# Altium integrated library FPGA NB2DSK01 Port-Plugin.IntLib: 28 symbols
Pins are listed as number, name and electrical type; pins without a type are passive.

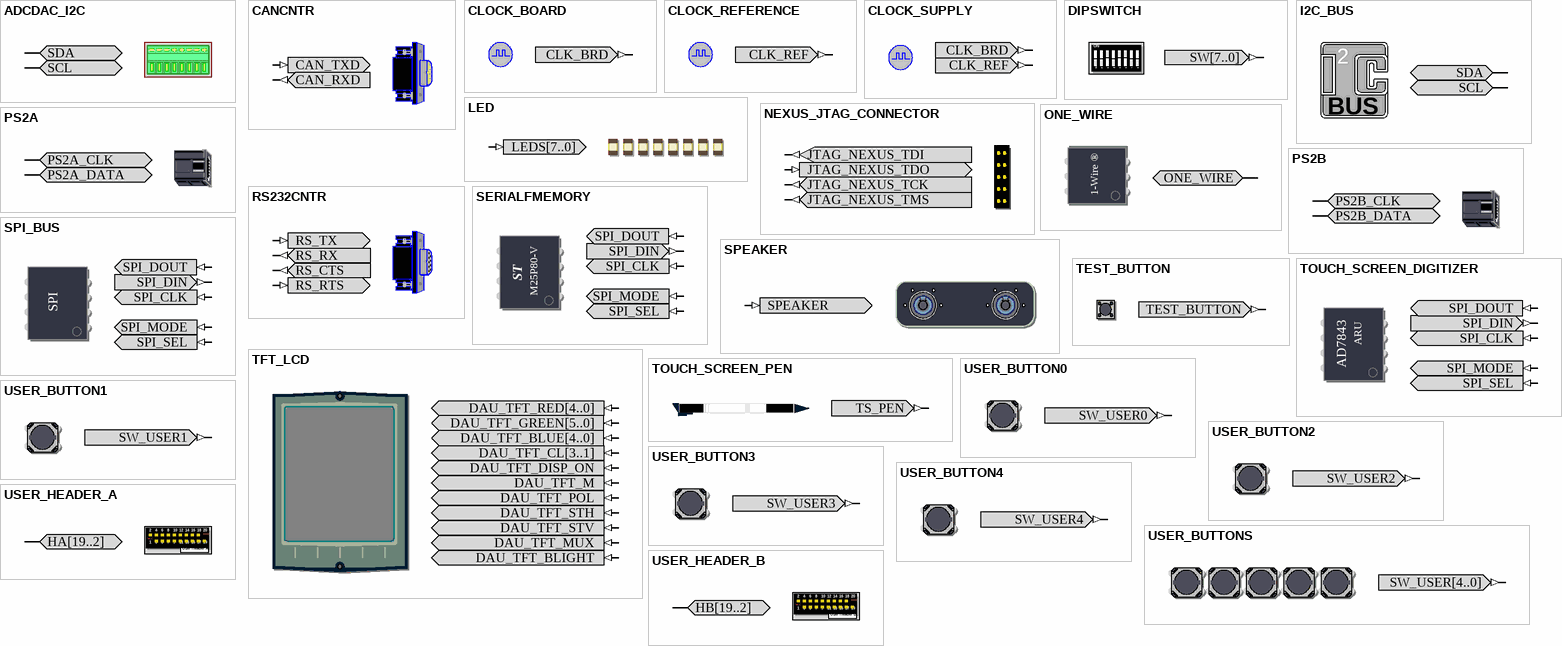
[diagram p0: symbols ADCDAC_I2C to USER_HEADER_B]

## ADCDAC_I2C
designator ?  (value not drawn)
Analog Digital/ Digital Analog Converter, I2C Interface; PortComponent: True; Published: 19-Nov-2003; Publisher: Altium Limited; HelpURL: https://wiki.altium.com/display/ADOH/NB2DSK01+-+ADC-DAC-I2C; UseInDSF: True
pins: SCL (io), SDA (io)

## CANCNTR
designator ?  (value not drawn)
CAN Bus Connector; PortComponent: True; Published: 19-Nov-2003; Publisher: Altium Limited; HelpURL: https://wiki.altium.com/display/ADOH/NB2DSK01+-+CAN+Port
pins: CAN_RXD (out), CAN_TXD (in)

## CLOCK_BOARD
designator ?  (value not drawn)
Global System Clock Supply; PortComponent: True; Published: 19-Nov-2003; Publisher: Altium Limited; HelpURL: https://wiki.altium.com/display/ADOH/NB2DSK01+-+System+Clocks; UseInDSF: True
pins: CLK_BRD (out)

## CLOCK_REFERENCE
designator ?  (value not drawn)
Global System Clock Reference Supply; PortComponent: True; Published: 19-Nov-2003; Publisher: Altium Limited; HelpURL: https://wiki.altium.com/display/ADOH/NB2DSK01+-+System+Clocks
pins: CLK_REF (out)

## CLOCK_SUPPLY
designator ?  (value not drawn)
Global System Clock and Reference Supply; PortComponent: True; Published: 19-Nov-2003; Publisher: Altium Limited; HelpURL: https://wiki.altium.com/display/ADOH/NB2DSK01+-+System+Clocks; UseInDSF: True
pins: CLK_BRD (out), CLK_REF (out)

## DIPSWITCH
designator ?
8-Way Dip-Switch; PortComponent: True; Published: 19-Nov-2003; Publisher: Altium Limited; HelpURL: https://wiki.altium.com/display/ADOH/NB2DSK01+-+User+DIP-Switch
pins: SW[7..0] (out)
text: ON; 1; 2; 3; 4; 5; 6; 7; 8

## I2C_BUS
designator ?
I2C Bus Interface; PortComponent: True; Published: 22-Jan-2007; Publisher: Altium Limited; HelpURL: https://wiki.altium.com/display/ADOH/Using+Multiple+SPI+and+I2C+Devices+in+a+Design
pins: SCL (io), SDA (io)
text: 2; BUS

## LED
designator ?
Bank of eight Red LEDs; PortComponent: True; Published: 19-Nov-2003; Publisher: Altium Limited; HelpURL: https://wiki.altium.com/display/ADOH/NB2DSK01+-+User+LEDs
pins: LEDS[7..0] (in)

## NEXUS_JTAG_CONNECTOR
designator ?
JTAG Port; PortComponent: True; Published: 19-Nov-2003; Publisher: Altium Limited; HelpURL: https://wiki.altium.com/display/ADOH/Enabling+the+Soft+Devices+JTAG+Chain
pins: JTAG_NEXUS_TCK (out), JTAG_NEXUS_TDI (out), JTAG_NEXUS_TDO (in), JTAG_NEXUS_TMS (out)

## ONE_WIRE
designator ?
Peripheral Board One Wire; PortComponent: True; Published: 25-June-2007; Publisher: Altium Limited; HelpURL: https://wiki.altium.com/display/ADOH/Peripheral+Board+1-Wire+Communications
pins: ONE_WIRE (io)
text: 1-Wire ®

## PS2A
designator ?
Mouse PS2 Connector; PortComponent: True; Published: 19-Nov-2003; Publisher: Altium Limited; HelpURL: https://wiki.altium.com/display/ADOH/NB2DSK01+-+PS2+Mouse+and+Keyboard+Ports
pins: PS2A_CLK (io), PS2A_DATA (io)

## PS2B
designator ?
Key Board PS2 Connector; PortComponent: True; Published: 19-Nov-2003; Publisher: Altium Limited; HelpURL: https://wiki.altium.com/display/ADOH/NB2DSK01+-+PS2+Mouse+and+Keyboard+Ports
pins: PS2B_CLK (io), PS2B_DATA (io)

## RS232CNTR
designator ?
DCE Serial Port Connector; PortComponent: True; Published: 19-Nov-2003; Publisher: Altium Limited; HelpURL: https://wiki.altium.com/display/ADOH/NB2DSK01+-+RS-232+Serial+Port
pins: RS_CTS (out), RS_RTS (in), RS_RX (out), RS_TX (in)

## SERIALFMEMORY
designator ?  (value not drawn)
Serial SPI Flash RAM; PortComponent: True; Published: 19-Nov-2003; Publisher: Altium Limited; HelpURL: https://wiki.altium.com/display/ADOH/NB2DSK01+-+Serial+SPI+Flash+Memory; UseInDSF: True
pins: SPI_CLK (in), SPI_DIN (out), SPI_DOUT (in), SPI_MODE (in), SPI_SEL (in)
text: ST; M25P80-V

## SPEAKER
designator ?
Sound interface; PortComponent: True; Published: 16-Apr-2007; Publisher: Altium Limited; HelpURL: https://wiki.altium.com/display/ADOH/NB2DSK01+-+Buzzer+Signal
pins: SPEAKER (in)

## SPI_BUS
designator ?
Generic SPI Bus; PortComponent: True; Published: 22-Jan-2007; Publisher: Altium Limited; HelpURL: https://wiki.altium.com/display/ADOH/Using+Multiple+SPI+and+I2C+Devices+in+a+Design
pins: SPI_CLK (in), SPI_DIN (out), SPI_DOUT (in), SPI_MODE (in), SPI_SEL (in)
text: SPI

## TEST_BUTTON
designator ?
Test / Reset Button; PortComponent: True; Published: 19-Nov-2003; Publisher: Altium Limited; HelpURL: https://wiki.altium.com/display/ADOH/NB2DSK01+-+Daughter+Board+Test-Reset+Button
pins: TEST_BUTTON (out)

## TFT_LCD
designator ?
TFT LCD Panel; PortComponent: True; Published: 22-Jan-2007; Publisher: Altium Limited; HelpURL: https://wiki.altium.com/display/ADOH/NB2DSK01+-+TFT+LCD+Panel+%28with+Touch+Screen%29
pins: DAU_TFT_BLIGHT (in), DAU_TFT_BLUE[4..0] (in), DAU_TFT_CL[3..1] (in), DAU_TFT_DISP_ON (in), DAU_TFT_GREEN[5..0] (in), DAU_TFT_M (in), DAU_TFT_MUX (in), DAU_TFT_POL (in), DAU_TFT_RED[4..0] (in), DAU_TFT_STH (in), DAU_TFT_STV (in)

## TOUCH_SCREEN_DIGITIZER
designator ?
Touch Screen Digitizer; PortComponent: True; Published: 22-Jan-2007; Publisher: Altium Limited; HelpURL: https://wiki.altium.com/display/ADOH/NB2DSK01+-+TFT+LCD+Panel+%28with+Touch+Screen%29
pins: SPI_CLK (in), SPI_DIN (out), SPI_DOUT (in), SPI_MODE (in), SPI_SEL (in)
text: ARU; AD7843

## TOUCH_SCREEN_PEN
designator ?, comment TOUCHSCREEN_PEN_DOWN  (value not drawn)
TFT Touch Screen Pen; PortComponent: True; Published: 22-Jan-2007; Publisher: Altium Limited; HelpURL: https://wiki.altium.com/display/ADOH/NB2DSK01+-+TFT+LCD+Panel+%28with+Touch+Screen%29
pins: TS_PEN (out)

## USER_BUTTON0
designator ?
Generic User Button; PortComponent: True; Published: 16-Apr-2007; Publisher: Altium Limited; HelpURL: https://wiki.altium.com/display/ADOH/NB2DSK01+-+Generic+User+Switches
pins: SW_USER0 (out)

## USER_BUTTON1
designator ?
Generic User Button; PortComponent: True; Published: 16-Apr-2007; Publisher: Altium Limited; HelpURL: https://wiki.altium.com/display/ADOH/NB2DSK01+-+Generic+User+Switches
pins: SW_USER1 (out)

## USER_BUTTON2
designator ?
Generic User Button; PortComponent: True; Published: 16-Apr-2007; Publisher: Altium Limited; HelpURL: https://wiki.altium.com/display/ADOH/NB2DSK01+-+Generic+User+Switches
pins: SW_USER2 (out)

## USER_BUTTON3
designator ?
Generic User Button; PortComponent: True; Published: 16-Apr-2007; Publisher: Altium Limited; HelpURL: https://wiki.altium.com/display/ADOH/NB2DSK01+-+Generic+User+Switches
pins: SW_USER3 (out)

## USER_BUTTON4
designator ?
Generic User Button; PortComponent: True; Published: 16-Apr-2007; Publisher: Altium Limited; HelpURL: https://wiki.altium.com/display/ADOH/NB2DSK01+-+Generic+User+Switches
pins: SW_USER4 (out)

## USER_BUTTONS
designator ?
Generic User Buttons; PortComponent: True; Published: 16-Apr-2007; Publisher: Altium Limited; HelpURL: https://wiki.altium.com/display/ADOH/NB2DSK01+-+Generic+User+Switches
pins: SW_USER[4..0] (out)

## USER_HEADER_A
designator ?  (value not drawn)
User Header A; PortComponent: True; Published: 19-Nov-2003; Publisher: Altium Limited; HelpURL: https://wiki.altium.com/display/ADOH/NB2DSK01+-+User+IO+Headers
pins: HA[19..2] (io)
text: 2; 4; 6; 8; 10; 12; 14; 16; 18; GND; 20; VCC; 1; 3; 5; 7; 9; 11; 13; 15; 17; 19

## USER_HEADER_B
designator ?  (value not drawn)
User Header B; PortComponent: True; Published: 19-Nov-2003; Publisher: Altium Limited; HelpURL: https://wiki.altium.com/display/ADOH/NB2DSK01+-+User+IO+Headers
pins: HB[19..2] (io)
text: 2; 4; 6; 8; 10; 12; 14; 16; 18; GND; 20; VCC; 1; 3; 5; 7; 9; 11; 13; 15; 17; 19